# Altium integrated library Resistors.IntLib: 4954 symbols (part 29 of 32)
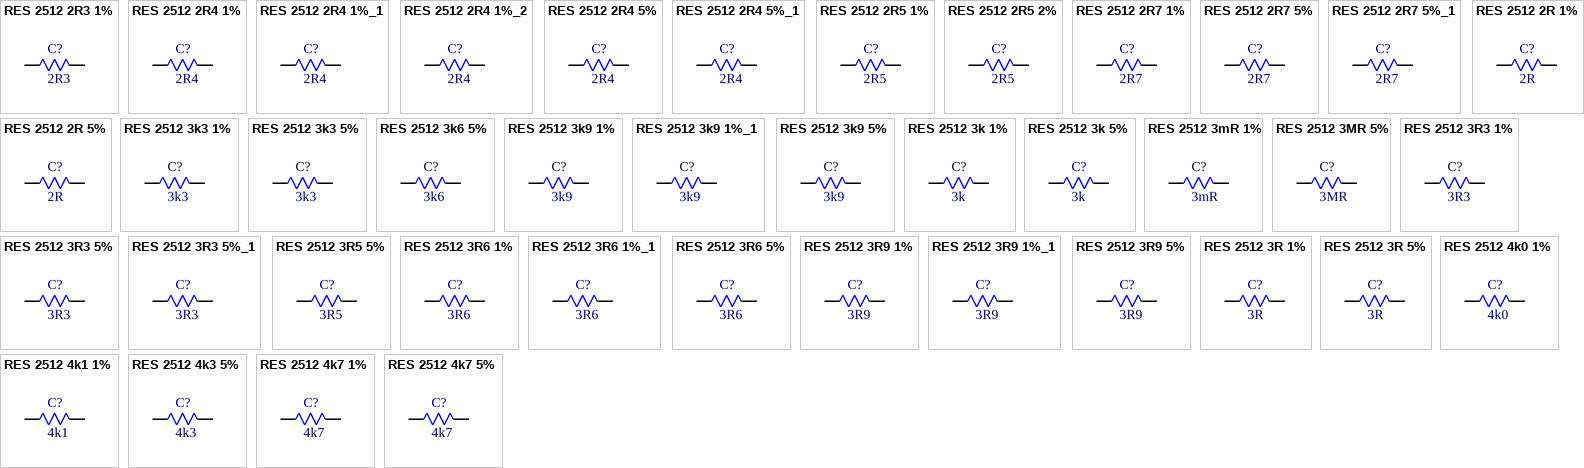
[diagram p151: symbols RES 2512 2R3 1% to RES 2512 4k7 5%]

## RES 2512 4k1 1%
designator C?, comment 4k1
4.12kR 1W 200V Thick Film Resistor 100ppm/â„ƒ 1% 2512 Chip Resistor - Surface Mount RoHS; Manufacturer: FOJAN; Manufacturer Part Number: FRC2512F4121TS; Supplier: LCSC; Supplier Part Number: C48533765; Resistance: 4k1; Tolerance: 1%; Voltage Rating: 200V; Power: 1W
footprint RES SMD 2512
pins: 1, 2

## RES 2512 4k3 5%
designator C?, comment 4k3
4.3kR 5% 1W 2512 Thick Film Resistor; Manufacturer: FOJAN; Manufacturer Part Number: FRC2512J432 TS; Voltage Rating: 200V; Supplier: LCSC; Supplier Part Number: C2934116; Resistance: 4k3; Tolerance: 5%; Power: 1W
footprint RES SMD 2512
pins: 1, 2

## RES 2512 4k7 1%
designator C?, comment 4k7
4.7kR 1% 1W 2512 Thick Film Resistor; Manufacturer: FOJAN; Manufacturer Part Number: FRC2512F4701TS; Voltage Rating: 200V; Supplier: LCSC; Supplier Part Number: C5189023; Resistance: 4k7; Tolerance: 1%; Power: 1W
footprint RES SMD 2512
pins: 1, 2

## RES 2512 4k7 5%
designator C?, comment 4k7
4.7kR 5% 1W 2512 Thick Film Resistor; Manufacturer: FOJAN; Manufacturer Part Number: FRC2512J472 TS; Voltage Rating: 200V; Supplier: LCSC; Supplier Part Number: C2907583; Resistance: 4k7; Tolerance: 5%; Power: 1W
footprint RES SMD 2512
pins: 1, 2

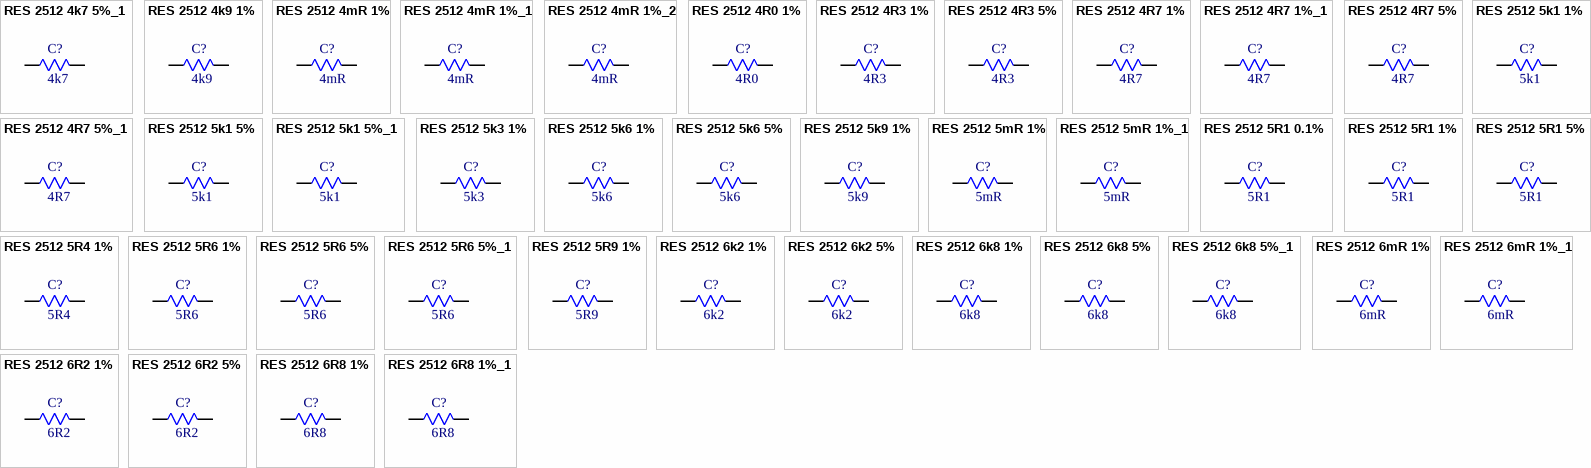
[diagram p112: symbols RES 2512 4k7 5%_1 to RES 2512 6R8 1%_1]

## RES 2512 4k7 5%_1
designator C?, comment 4k7
2W 4.7kR Thick Film Resistor 200ppm/â„ƒ 5% 2512 Chip Resistor - Surface Mount RoHS; Manufacturer: FOJAN; Manufacturer Part Number: FRP2512J472 TS; Supplier: LCSC; Supplier Part Number: C7468142; Resistance: 4k7; Tolerance: 5%; Power: 2W
footprint RES SMD 2512
pins: 1, 2

## RES 2512 4k9 1%
designator C?, comment 4k9
1W 4.99kR 200V Thick Film Resistor 100ppm/â„ƒ 1% 2512 Chip Resistor - Surface Mount RoHS; Manufacturer: FOJAN; Manufacturer Part Number: FRC2512F4991TS; Supplier: LCSC; Supplier Part Number: C48533753; Resistance: 4k9; Tolerance: 1%; Voltage Rating: 200V; Power: 1W
footprint RES SMD 2512
pins: 1, 2

## RES 2512 4mR 1%
designator C?, comment 4mR
2W 4mR Current Sense Resistor 50ppm/â„ƒ 1% 2512 Chip Resistor - Surface Mount RoHS; Manufacturer: FOJAN; Manufacturer Part Number: FRM252WFR004TN; Supplier: LCSC; Supplier Part Number: C7420003; Resistance: 4mR; Tolerance: 1%; Power: 2W
footprint RES SMD 2512
pins: 1, 2

## RES 2512 4mR 1%_1
designator C?, comment 4mR
4mR 3W Current Sense Resistor 50ppm/â„ƒ 1% 2512 Chip Resistor - Surface Mount RoHS; Manufacturer: FOJAN; Manufacturer Part Number: FPM253WFR004TML; Supplier: LCSC; Supplier Part Number: C7420018; Resistance: 4mR; Tolerance: 1%; Power: 3W
footprint RES SMD 2512
pins: 1, 2

## RES 2512 4mR 1%_2
designator C?, comment 4mR
4mR 3W 50ppm/â„ƒ 1% 2512 Chip Resistor - Surface Mount RoHS; Manufacturer: FOJAN; Manufacturer Part Number: FPM253WFR004TM; Supplier: LCSC; Supplier Part Number: C48533612; Resistance: 4mR; Tolerance: 1%; Power: 3W
footprint RES SMD 2512
pins: 1, 2

## RES 2512 4R0 1%
designator C?, comment 4R0
1W 4.02R 200V Thick Film Resistor 1% 2512 Chip Resistor - Surface Mount RoHS; Manufacturer: FOJAN; Manufacturer Part Number: FRC2512F4R02TS; Supplier: LCSC; Supplier Part Number: C51048307; Resistance: 4R0; Tolerance: 1%; Voltage Rating: 200V; Power: 1W
footprint RES SMD 2512
pins: 1, 2

## RES 2512 4R3 1%
designator C?, comment 4R3
1W 4.3R 200V Thick Film Resistor 1% 200ppm/â„ƒ 2512 Chip Resistor - Surface Mount RoHS; Manufacturer: FOJAN; Manufacturer Part Number: FRC2512F4R30TS; Supplier: LCSC; Supplier Part Number: C2960775; Resistance: 4R3; Tolerance: 1%; Voltage Rating: 200V; Power: 1W
footprint RES SMD 2512
pins: 1, 2

## RES 2512 4R3 5%
designator C?, comment 4R3
1W 4.3R 200V Thick Film Resistor 5% 200ppm/â„ƒ 2512 Chip Resistor - Surface Mount RoHS; Manufacturer: FOJAN; Manufacturer Part Number: FRC2512J4R3 TS; Supplier: LCSC; Supplier Part Number: C2960816; Resistance: 4R3; Tolerance: 5%; Voltage Rating: 200V; Power: 1W
footprint RES SMD 2512
pins: 1, 2

## RES 2512 4R7 1%
designator C?, comment 4R7
1W 4.7R 200V Thick Film Resistor 200ppm/â„ƒ 1% 2512 Chip Resistor - Surface Mount RoHS; Manufacturer: FOJAN; Manufacturer Part Number: FRC2512F4R70TS; Supplier: LCSC; Supplier Part Number: C2999606; Resistance: 4R7; Tolerance: 1%; Voltage Rating: 200V; Power: 1W
footprint RES SMD 2512
pins: 1, 2

## RES 2512 4R7 1%_1
designator C?, comment 4R7
4.7R 2W Thick Film Resistor 200ppm/â„ƒ 1% 2512 Chip Resistor - Surface Mount RoHS; Manufacturer: FOJAN; Manufacturer Part Number: FRP2512F4R70TS; Supplier: LCSC; Supplier Part Number: C7468231; Resistance: 4R7; Tolerance: 1%; Power: 2W
footprint RES SMD 2512
pins: 1, 2

## RES 2512 4R7 5%
designator C?, comment 4R7
1W 4.7R 200V Thick Film Resistor 5% 200ppm/â„ƒ 2512 Chip Resistor - Surface Mount RoHS; Manufacturer: FOJAN; Manufacturer Part Number: FRC2512J4R7 TS; Supplier: LCSC; Supplier Part Number: C2907584; Resistance: 4R7; Tolerance: 5%; Voltage Rating: 200V; Power: 1W
footprint RES SMD 2512
pins: 1, 2

## RES 2512 4R7 5%_1
designator C?, comment 4R7
4.7MR 5% 1W 2512 Thick Film Resistor; Manufacturer: FOJAN; Manufacturer Part Number: FRC2512J475TS; Voltage Rating: 200V; Supplier: LCSC; Supplier Part Number: C3000638; Resistance: 4R7; Tolerance: 5%; Power: 1W
footprint RES SMD 2512
pins: 1, 2

## RES 2512 5k1 1%
designator C?, comment 5k1
5.1kR 1% 1W 2512 Thick Film Resistor; Manufacturer: FOJAN; Manufacturer Part Number: FRC2512F5101TS; Voltage Rating: 200V; Supplier: LCSC; Supplier Part Number: C2960812; Resistance: 5k1; Tolerance: 1%; Power: 1W
footprint RES SMD 2512
pins: 1, 2

## RES 2512 5k1 5%
designator C?, comment 5k1
5.1kR 5% 1W 2512 Thick Film Resistor; Manufacturer: FOJAN; Manufacturer Part Number: FRC2512J512 TS; Voltage Rating: 200V; Supplier: LCSC; Supplier Part Number: C2934122; Resistance: 5k1; Tolerance: 5%; Power: 1W
footprint RES SMD 2512
pins: 1, 2

## RES 2512 5k1 5%_1
designator C?, comment 5k1
5.1kR 2W 200V Thick Film Resistor 5% 2512 Chip Resistor - Surface Mount RoHS; Manufacturer: FOJAN; Manufacturer Part Number: FRP2512J512 TS; Supplier: LCSC; Supplier Part Number: C52033540; Resistance: 5k1; Tolerance: 5%; Voltage Rating: 200V; Power: 2W
footprint RES SMD 2512
pins: 1, 2

## RES 2512 5k3 1%
designator C?, comment 5k3
1W 5.36kR 200V Thick Film Resistor 1% 2512 Chip Resistor - Surface Mount RoHS; Manufacturer: FOJAN; Manufacturer Part Number: FRC2512F5361TS; Supplier: LCSC; Supplier Part Number: C51048308; Resistance: 5k3; Tolerance: 1%; Voltage Rating: 200V; Power: 1W
footprint RES SMD 2512
pins: 1, 2

## RES 2512 5k6 1%
designator C?, comment 5k6
5.6kR 1% 1W 2512 Thick Film Resistor; Manufacturer: FOJAN; Manufacturer Part Number: FRC2512F5601TS; Voltage Rating: 200V; Supplier: LCSC; Supplier Part Number: C5154003; Resistance: 5k6; Tolerance: 1%; Power: 1W
footprint RES SMD 2512
pins: 1, 2

## RES 2512 5k6 5%
designator C?, comment 5k6
1W 5.6kR 200V Thick Film Resistor 100ppm/â„ƒ 5% 2512 Chip Resistor - Surface Mount RoHS; Manufacturer: FOJAN; Manufacturer Part Number: FRC2512J562TS; Supplier: LCSC; Supplier Part Number: C3000639; Resistance: 5k6; Tolerance: 5%; Voltage Rating: 200V; Power: 1W
footprint RES SMD 2512
pins: 1, 2

## RES 2512 5k9 1%
designator C?, comment 5k9
5.9kR 1W 200V Thick Film Resistor 100ppm/â„ƒ 1% 2512 Chip Resistor - Surface Mount RoHS; Manufacturer: FOJAN; Manufacturer Part Number: FRC2512F5901TS; Supplier: LCSC; Supplier Part Number: C48533748; Resistance: 5k9; Tolerance: 1%; Voltage Rating: 200V; Power: 1W
footprint RES SMD 2512
pins: 1, 2

## RES 2512 5mR 1%
designator C?, comment 5mR
5mR 3W Current Sense Resistor 50ppm/â„ƒ 1% 2512 Chip Resistor - Surface Mount RoHS; Manufacturer: FOJAN; Manufacturer Part Number: FPM253WFR005TM; Supplier: LCSC; Supplier Part Number: C7420019; Resistance: 5mR; Tolerance: 1%; Power: 3W
footprint RES SMD 2512
pins: 1, 2

## RES 2512 5mR 1%_1
designator C?, comment 5mR
2W 5mR Current Sense Resistor 50ppm/â„ƒ 1% 2512 Chip Resistor - Surface Mount RoHS; Manufacturer: FOJAN; Manufacturer Part Number: FRM252WFR005TN; Supplier: LCSC; Supplier Part Number: C7420004; Resistance: 5mR; Tolerance: 1%; Power: 2W
footprint RES SMD 2512
pins: 1, 2

## RES 2512 5R1 0.1%
designator C?, comment 5R1
1W 5.1R 200V Thick Film Resistor 200ppm/â„ƒ 0.1% 2512 Chip Resistor - Surface Mount RoHS; Manufacturer: FOJAN; Manufacturer Part Number: FRH2512B5R10TS; Supplier: LCSC; Supplier Part Number: C49196932; Resistance: 5R1; Tolerance: 0.1%; Voltage Rating: 200V; Power: 1W
footprint RES SMD 2512
pins: 1, 2

## RES 2512 5R1 1%
designator C?, comment 5R1
1W 5.1R 200V Thick Film Resistor 1% 200ppm/â„ƒ 2512 Chip Resistor - Surface Mount RoHS; Manufacturer: FOJAN; Manufacturer Part Number: FRC2512F5R10TS; Supplier: LCSC; Supplier Part Number: C2934079; Resistance: 5R1; Tolerance: 1%; Voltage Rating: 200V; Power: 1W
footprint RES SMD 2512
pins: 1, 2

## RES 2512 5R1 5%
designator C?, comment 5R1
1W 5.1R 200V Thick Film Resistor 200ppm/â„ƒ 5% 2512 Chip Resistor - Surface Mount RoHS; Manufacturer: FOJAN; Manufacturer Part Number: FRC2512J5R1TS; Supplier: LCSC; Supplier Part Number: C3000793; Resistance: 5R1; Tolerance: 5%; Voltage Rating: 200V; Power: 1W
footprint RES SMD 2512
pins: 1, 2

## RES 2512 5R4 1%
designator C?, comment 5R4
1W 5.49R 200V Thick Film Resistor 1% 2512 Chip Resistor - Surface Mount RoHS; Manufacturer: FOJAN; Manufacturer Part Number: FRC2512F5R49TS; Supplier: LCSC; Supplier Part Number: C51048314; Resistance: 5R4; Tolerance: 1%; Voltage Rating: 200V; Power: 1W
footprint RES SMD 2512
pins: 1, 2

## RES 2512 5R6 1%
designator C?, comment 5R6
1W 5.6R 200V Thick Film Resistor 200ppm/â„ƒ 1% 2512 Chip Resistor - Surface Mount RoHS; Manufacturer: FOJAN; Manufacturer Part Number: FRC2512F5R60TS; Supplier: LCSC; Supplier Part Number: C2999604; Resistance: 5R6; Tolerance: 1%; Voltage Rating: 200V; Power: 1W
footprint RES SMD 2512
pins: 1, 2

## RES 2512 5R6 5%
designator C?, comment 5R6
5.6R 2W Thick Film Resistor 200ppm/â„ƒ 5% 2512 Chip Resistor - Surface Mount RoHS; Manufacturer: FOJAN; Manufacturer Part Number: FRP2512J5R6 TS; Supplier: LCSC; Supplier Part Number: C7468151; Resistance: 5R6; Tolerance: 5%; Power: 2W
footprint RES SMD 2512
pins: 1, 2

## RES 2512 5R6 5%_1
designator C?, comment 5R6
1W 5.6R 200V Thick Film Resistor 200ppm/â„ƒ 5% 2512 Chip Resistor - Surface Mount RoHS; Manufacturer: FOJAN; Manufacturer Part Number: FRC2512J5R6TS; Supplier: LCSC; Supplier Part Number: C3000663; Resistance: 5R6; Tolerance: 5%; Voltage Rating: 200V; Power: 1W
footprint RES SMD 2512
pins: 1, 2

## RES 2512 5R9 1%
designator C?, comment 5R9
1W 5.9R 200V Thick Film Resistor 1% 2512 Chip Resistor - Surface Mount RoHS; Manufacturer: FOJAN; Manufacturer Part Number: FRC2512F5R90TS; Supplier: LCSC; Supplier Part Number: C51048249; Resistance: 5R9; Tolerance: 1%; Voltage Rating: 200V; Power: 1W
footprint RES SMD 2512
pins: 1, 2

## RES 2512 6k2 1%
designator C?, comment 6k2
6.2kR 1% 1W 2512 Thick Film Resistor; Manufacturer: FOJAN; Manufacturer Part Number: FRC2512F6201TS; Voltage Rating: 200V; Supplier: LCSC; Supplier Part Number: C5713380; Resistance: 6k2; Tolerance: 1%; Power: 1W
footprint RES SMD 2512
pins: 1, 2

## RES 2512 6k2 5%
designator C?, comment 6k2
6.2kR 5% 1W 2512 Thick Film Resistor; Manufacturer: FOJAN; Manufacturer Part Number: FRC2512J622 TS; Voltage Rating: 200V; Supplier: LCSC; Supplier Part Number: C2960756; Resistance: 6k2; Tolerance: 5%; Power: 1W
footprint RES SMD 2512
pins: 1, 2

## RES 2512 6k8 1%
designator C?, comment 6k8
1W 6.8kR 200V Thick Film Resistor 1% 100ppm/â„ƒ 2512 Chip Resistor - Surface Mount RoHS; Manufacturer: FOJAN; Manufacturer Part Number: FRC2512F6801TS; Supplier: LCSC; Supplier Part Number: C7467344; Resistance: 6k8; Tolerance: 1%; Voltage Rating: 200V; Power: 1W
footprint RES SMD 2512
pins: 1, 2

## RES 2512 6k8 5%
designator C?, comment 6k8
6.8kR 1W Thick Film Resistor 100ppm/â„ƒ 5% 2512 Chip Resistor - Surface Mount RoHS; Manufacturer: FOJAN; Manufacturer Part Number: FRS2512J682 TS; Supplier: LCSC; Supplier Part Number: C42372225; Resistance: 6k8; Tolerance: 5%; Power: 1W
footprint RES SMD 2512
pins: 1, 2

## RES 2512 6k8 5%_1
designator C?, comment 6k8
6.8kR 5% 1W 2512 Thick Film Resistor; Manufacturer: FOJAN; Manufacturer Part Number: FRC2512J682TS; Voltage Rating: 200V; Supplier: LCSC; Supplier Part Number: C3000668; Resistance: 6k8; Tolerance: 5%; Power: 1W
footprint RES SMD 2512
pins: 1, 2

## RES 2512 6mR 1%
designator C?, comment 6mR
6mR 1% 3W; Manufacturer: FOJAN; Manufacturer Part Number: FPM253WFR006TN; Supplier: LCSC; Supplier Part Number: C46635901; Resistance: 6mR; Tolerance: 1%; Power: 3W
footprint RES SMD 2512
pins: 1, 2

## RES 2512 6mR 1%_1
designator C?, comment 6mR
2W 6mR 50ppm/â„ƒ 1% 2512 Chip Resistor - Surface Mount RoHS; Manufacturer: FOJAN; Manufacturer Part Number: FRM252WFR006TM; Supplier: LCSC; Supplier Part Number: C48533611; Resistance: 6mR; Tolerance: 1%; Power: 2W
footprint RES SMD 2512
pins: 1, 2

## RES 2512 6R2 1%
designator C?, comment 6R2
1W 6.2R 200V Thick Film Resistor 200ppm/â„ƒ 1% 2512 Chip Resistor - Surface Mount RoHS; Manufacturer: FOJAN; Manufacturer Part Number: FRC2512F6R20TS; Supplier: LCSC; Supplier Part Number: C3000561; Resistance: 6R2; Tolerance: 1%; Voltage Rating: 200V; Power: 1W
footprint RES SMD 2512
pins: 1, 2

## RES 2512 6R2 5%
designator C?, comment 6R2
6.2R 1W 200V Thick Film Resistor 5% 200ppm/â„ƒ 2512 Chip Resistor - Surface Mount RoHS; Manufacturer: FOJAN; Manufacturer Part Number: FRC2512J6R2 TS; Supplier: LCSC; Supplier Part Number: C2934127; Resistance: 6R2; Tolerance: 5%; Voltage Rating: 200V; Power: 1W
footprint RES SMD 2512
pins: 1, 2

## RES 2512 6R8 1%
designator C?, comment 6R8
1W 6.8R 200V Thick Film Resistor 200ppm/â„ƒ 1% 2512 Chip Resistor - Surface Mount RoHS; Manufacturer: FOJAN; Manufacturer Part Number: FRC2512F6R80TS; Supplier: LCSC; Supplier Part Number: C5121567; Resistance: 6R8; Tolerance: 1%; Voltage Rating: 200V; Power: 1W
footprint RES SMD 2512
pins: 1, 2

## RES 2512 6R8 1%_1
designator C?, comment 6R8
2W 6.8R 200V Thick Film Resistor 200ppm/â„ƒ 1% 2512 Chip Resistor - Surface Mount RoHS; Manufacturer: FOJAN; Manufacturer Part Number: FRP2512F6R80TS; Supplier: LCSC; Supplier Part Number: C49196888; Resistance: 6R8; Tolerance: 1%; Voltage Rating: 200V; Power: 2W
footprint RES SMD 2512
pins: 1, 2

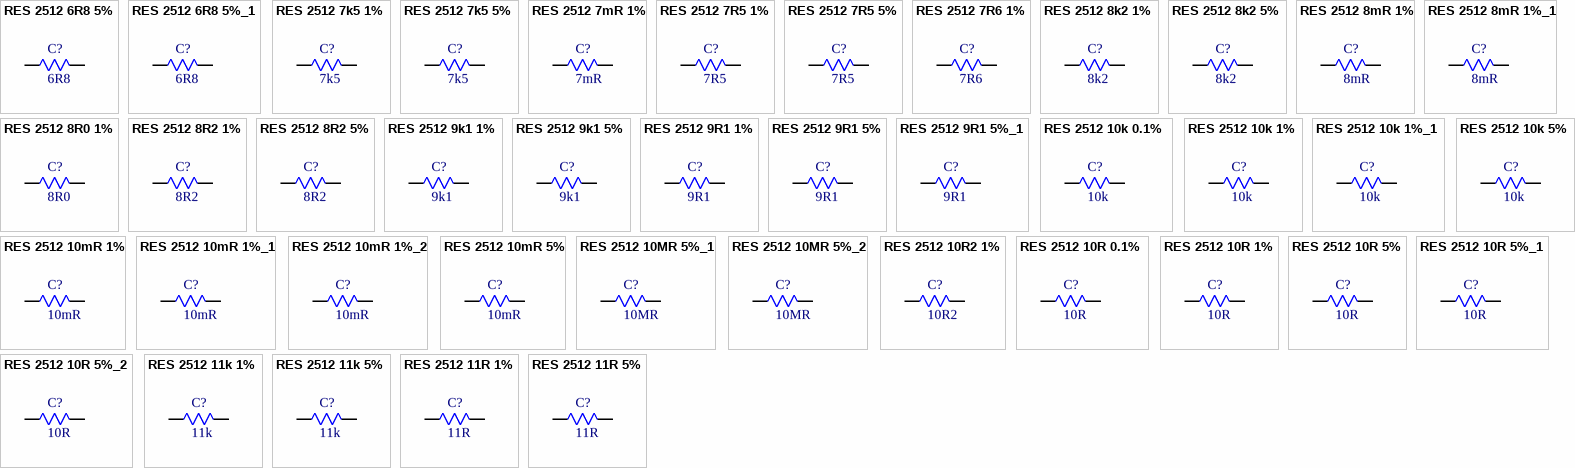
[diagram p113: symbols RES 2512 6R8 5% to RES 2512 11R 5%]

## RES 2512 6R8 5%
designator C?, comment 6R8
1W 6.8R 200V Thick Film Resistor 5% 200ppm/â„ƒ 2512 Chip Resistor - Surface Mount RoHS; Manufacturer: FOJAN; Manufacturer Part Number: FRC2512J6R8 TS; Supplier: LCSC; Supplier Part Number: C2960713; Resistance: 6R8; Tolerance: 5%; Voltage Rating: 200V; Power: 1W
footprint RES SMD 2512
pins: 1, 2

## RES 2512 6R8 5%_1
designator C?, comment 6R8
6.8R 2W Thick Film Resistor 200ppm/â„ƒ 5% 2512 Chip Resistor - Surface Mount RoHS; Manufacturer: FOJAN; Manufacturer Part Number: FRP2512J6R8 TS; Supplier: LCSC; Supplier Part Number: C7468160; Resistance: 6R8; Tolerance: 5%; Power: 2W
footprint RES SMD 2512
pins: 1, 2

## RES 2512 7k5 1%
designator C?, comment 7k5
7.5kR 1% 1W 2512 Thick Film Resistor; Manufacturer: FOJAN; Manufacturer Part Number: FRC2512F7501TS; Voltage Rating: 200V; Supplier: LCSC; Supplier Part Number: C5154004; Resistance: 7k5; Tolerance: 1%; Power: 1W
footprint RES SMD 2512
pins: 1, 2

## RES 2512 7k5 5%
designator C?, comment 7k5
7.5kR 5% 1W 2512 Thick Film Resistor; Manufacturer: FOJAN; Manufacturer Part Number: FRC2512J752 TS; Voltage Rating: 200V; Supplier: LCSC; Supplier Part Number: C2934129; Resistance: 7k5; Tolerance: 5%; Power: 1W
footprint RES SMD 2512
pins: 1, 2

## RES 2512 7mR 1%
designator C?, comment 7mR
7mR 1% 3W; Manufacturer: FOJAN; Manufacturer Part Number: FPM253WFR007TN; Supplier: LCSC; Supplier Part Number: C46635911; Resistance: 7mR; Tolerance: 1%; Power: 3W
footprint RES SMD 2512
pins: 1, 2

## RES 2512 7R5 1%
designator C?, comment 7R5
1W 7.5R 200V Thick Film Resistor 1% 200ppm/â„ƒ 2512 Chip Resistor - Surface Mount RoHS; Manufacturer: FOJAN; Manufacturer Part Number: FRC2512F7R50TS; Supplier: LCSC; Supplier Part Number: C2960814; Resistance: 7R5; Tolerance: 1%; Voltage Rating: 200V; Power: 1W
footprint RES SMD 2512
pins: 1, 2

## RES 2512 7R5 5%
designator C?, comment 7R5
1W 7.5R 200V Thick Film Resistor 5% 200ppm/â„ƒ 2512 Chip Resistor - Surface Mount RoHS; Manufacturer: FOJAN; Manufacturer Part Number: FRC2512J7R5 TS; Supplier: LCSC; Supplier Part Number: C2960779; Resistance: 7R5; Tolerance: 5%; Voltage Rating: 200V; Power: 1W
footprint RES SMD 2512
pins: 1, 2

## RES 2512 7R6 1%
designator C?, comment 7R6
1W 7.68R 200V Thick Film Resistor 1% 2512 Chip Resistor - Surface Mount RoHS; Manufacturer: FOJAN; Manufacturer Part Number: FRC2512F7R68TS; Supplier: LCSC; Supplier Part Number: C51048321; Resistance: 7R6; Tolerance: 1%; Voltage Rating: 200V; Power: 1W
footprint RES SMD 2512
pins: 1, 2

## RES 2512 8k2 1%
designator C?, comment 8k2
1W 8.2kR 200V Thick Film Resistor 1% 100ppm/â„ƒ 2512 Chip Resistor - Surface Mount RoHS; Manufacturer: FOJAN; Manufacturer Part Number: FRC2512F8201TS; Supplier: LCSC; Supplier Part Number: C7467346; Resistance: 8k2; Tolerance: 1%; Voltage Rating: 200V; Power: 1W
footprint RES SMD 2512
pins: 1, 2

## RES 2512 8k2 5%
designator C?, comment 8k2
8.2kR 5% 1W 2512 Thick Film Resistor; Manufacturer: FOJAN; Manufacturer Part Number: FRC2512J822 TS; Voltage Rating: 200V; Supplier: LCSC; Supplier Part Number: C2960759; Resistance: 8k2; Tolerance: 5%; Power: 1W
footprint RES SMD 2512
pins: 1, 2

## RES 2512 8mR 1%
designator C?, comment 8mR
8mR 2W Current Sense Resistor 50ppm/â„ƒ 1% 2512 Chip Resistor - Surface Mount RoHS; Manufacturer: FOJAN; Manufacturer Part Number: FRM252WFR008TN; Supplier: LCSC; Supplier Part Number: C7420005; Resistance: 8mR; Tolerance: 1%; Power: 2W
footprint RES SMD 2512
pins: 1, 2

## RES 2512 8mR 1%_1
designator C?, comment 8mR
8mR 1% 3W; Manufacturer: FOJAN; Manufacturer Part Number: FPM253WFR008TN; Supplier: LCSC; Supplier Part Number: C46635907; Resistance: 8mR; Tolerance: 1%; Power: 3W
footprint RES SMD 2512
pins: 1, 2

## RES 2512 8R0 1%
designator C?, comment 8R0
1W 8.06R 200V Thick Film Resistor 1% 2512 Chip Resistor - Surface Mount RoHS; Manufacturer: FOJAN; Manufacturer Part Number: FRC2512F8R06TS; Supplier: LCSC; Supplier Part Number: C52033525; Resistance: 8R0; Tolerance: 1%; Voltage Rating: 200V; Power: 1W
footprint RES SMD 2512
pins: 1, 2

## RES 2512 8R2 1%
designator C?, comment 8R2
1W 8.2R 200V Thick Film Resistor 200ppm/â„ƒ 1% 2512 Chip Resistor - Surface Mount RoHS; Manufacturer: FOJAN; Manufacturer Part Number: FRC2512F8R20TS; Supplier: LCSC; Supplier Part Number: C3013325; Resistance: 8R2; Tolerance: 1%; Voltage Rating: 200V; Power: 1W
footprint RES SMD 2512
pins: 1, 2

## RES 2512 8R2 5%
designator C?, comment 8R2
8.2R 1W 200V Thick Film Resistor 5% 200ppm/â„ƒ 2512 Chip Resistor - Surface Mount RoHS; Manufacturer: FOJAN; Manufacturer Part Number: FRC2512J8R2 TS; Supplier: LCSC; Supplier Part Number: C2960686; Resistance: 8R2; Tolerance: 5%; Voltage Rating: 200V; Power: 1W
footprint RES SMD 2512
pins: 1, 2

## RES 2512 9k1 1%
designator C?, comment 9k1
9.1kR 1% 1W 2512 Thick Film Resistor; Manufacturer: FOJAN; Manufacturer Part Number: FRC2512F9101TS; Voltage Rating: 200V; Supplier: LCSC; Supplier Part Number: C2960819; Resistance: 9k1; Tolerance: 1%; Power: 1W
footprint RES SMD 2512
pins: 1, 2

## RES 2512 9k1 5%
designator C?, comment 9k1
9.1kR 5% 1W 2512 Thick Film Resistor; Manufacturer: FOJAN; Manufacturer Part Number: FRC2512J912TS; Voltage Rating: 200V; Supplier: LCSC; Supplier Part Number: C3000640; Resistance: 9k1; Tolerance: 5%; Power: 1W
footprint RES SMD 2512
pins: 1, 2

## RES 2512 9R1 1%
designator C?, comment 9R1
1W 9.1R 200V Thick Film Resistor 200ppm/â„ƒ 1% 2512 Chip Resistor - Surface Mount RoHS; Manufacturer: FOJAN; Manufacturer Part Number: FRC2512F9R10TS; Supplier: LCSC; Supplier Part Number: C2999542; Resistance: 9R1; Tolerance: 1%; Voltage Rating: 200V; Power: 1W
footprint RES SMD 2512
pins: 1, 2

## RES 2512 9R1 5%
designator C?, comment 9R1
9.1R 2W 200V Thick Film Resistor 5% 2512 Chip Resistor - Surface Mount RoHS; Manufacturer: FOJAN; Manufacturer Part Number: FRP2512J9R1 TS; Supplier: LCSC; Supplier Part Number: C51048293; Resistance: 9R1; Tolerance: 5%; Voltage Rating: 200V; Power: 2W
footprint RES SMD 2512
pins: 1, 2

## RES 2512 9R1 5%_1
designator C?, comment 9R1
1W 9.1R 200V Thick Film Resistor 200ppm/â„ƒ 5% 2512 Chip Resistor - Surface Mount RoHS; Manufacturer: FOJAN; Manufacturer Part Number: FRC2512J9R1TS; Supplier: LCSC; Supplier Part Number: C3000794; Resistance: 9R1; Tolerance: 5%; Voltage Rating: 200V; Power: 1W
footprint RES SMD 2512
pins: 1, 2

## RES 2512 10k 0.1%
designator C?, comment 10k
1W 10kR 200V Thick Film Resistor 100ppm/â„ƒ 0.1% 2512 Chip Resistor - Surface Mount RoHS; Manufacturer: FOJAN; Manufacturer Part Number: FRH2512B1002TS; Supplier: LCSC; Supplier Part Number: C49196672; Resistance: 10k; Tolerance: 0.1%; Voltage Rating: 200V; Power: 1W
footprint RES SMD 2512
pins: 1, 2

## RES 2512 10k 1%
designator C?, comment 10k
10kR 2W 200V Thick Film Resistor 1% 2512 Chip Resistor - Surface Mount RoHS; Manufacturer: FOJAN; Manufacturer Part Number: FRP2512F1002TS; Supplier: LCSC; Supplier Part Number: C52033501; Resistance: 10k; Tolerance: 1%; Voltage Rating: 200V; Power: 2W
footprint RES SMD 2512
pins: 1, 2

## RES 2512 10k 1%_1
designator C?, comment 10k
10kR 1% 1W 2512 Thick Film Resistor; Manufacturer: FOJAN; Manufacturer Part Number: FRC2512F1002TS; Voltage Rating: 200V; Supplier: LCSC; Supplier Part Number: C2934044; Resistance: 10k; Tolerance: 1%; Power: 1W
footprint RES SMD 2512
pins: 1, 2

## RES 2512 10k 5%
designator C?, comment 10k
10kR 5% 1W 2512 Thick Film Resistor; Manufacturer: FOJAN; Manufacturer Part Number: FRC2512J103 TS; Voltage Rating: 200V; Supplier: LCSC; Supplier Part Number: C2974112; Resistance: 10k; Tolerance: 5%; Power: 1W
footprint RES SMD 2512
pins: 1, 2

## RES 2512 10mR 1%
designator C?, comment 10mR
1W 10mR Thick Film Resistor 1% 2512 Chip Resistor - Surface Mount RoHS; Manufacturer: FOJAN; Manufacturer Part Number: FRL2512FR010TS; Supplier: LCSC; Supplier Part Number: C7467306; Resistance: 10mR; Tolerance: 1%; Power: 1W
footprint RES SMD 2512
pins: 1, 2

## RES 2512 10mR 1%_1
designator C?, comment 10mR
10mR 3W Current Sense Resistor 50ppm/â„ƒ 1% 2512 Chip Resistor - Surface Mount RoHS; Manufacturer: FOJAN; Manufacturer Part Number: FPM253WFR010TM; Supplier: LCSC; Supplier Part Number: C7420020; Resistance: 10mR; Tolerance: 1%; Power: 3W
footprint RES SMD 2512
pins: 1, 2

## RES 2512 10mR 1%_2
designator C?, comment 10mR
10mR 2W Current Sense Resistor 50ppm/â„ƒ 1% 2512 Chip Resistor - Surface Mount RoHS; Manufacturer: FOJAN; Manufacturer Part Number: FRM252WFR010TN; Supplier: LCSC; Supplier Part Number: C7419995; Resistance: 10mR; Tolerance: 1%; Power: 2W
footprint RES SMD 2512
pins: 1, 2

## RES 2512 10mR 5%
designator C?, comment 10mR
1W 10mR Thick Film Resistor 5% 2512 Chip Resistor - Surface Mount RoHS; Manufacturer: FOJAN; Manufacturer Part Number: FRL2512JR010TS; Supplier: LCSC; Supplier Part Number: C7467488; Resistance: 10mR; Tolerance: 5%; Power: 1W
footprint RES SMD 2512
pins: 1, 2

## RES 2512 10MR 5%_1
designator C?, comment 10MR
10MR 5% 1W 2512 Thick Film Resistor; Manufacturer: FOJAN; Manufacturer Part Number: FRC2512J106 TS; Voltage Rating: 200V; Supplier: LCSC; Supplier Part Number: C2934081; Resistance: 10MR; Tolerance: 5%; Power: 1W
footprint RES SMD 2512
pins: 1, 2

## RES 2512 10MR 5%_2
designator C?, comment 10MR
10MR 5% 1W 2512 Thick Film Resistor; Manufacturer: FOJAN; Manufacturer Part Number: FRG2512J106TS; Voltage Rating: 200V; Supplier: LCSC; Supplier Part Number: C3000710; Resistance: 10MR; Tolerance: 5%; Power: 1W
footprint RES SMD 2512
pins: 1, 2

## RES 2512 10R2 1%
designator C?, comment 10R2
1W 10.2R 200V Thick Film Resistor 1% 2512 Chip Resistor - Surface Mount RoHS; Manufacturer: FOJAN; Manufacturer Part Number: FRC2512F10R2TS; Supplier: LCSC; Supplier Part Number: C51048195; Resistance: 10R2; Tolerance: 1%; Voltage Rating: 200V; Power: 1W
footprint RES SMD 2512
pins: 1, 2

## RES 2512 10R 0.1%
designator C?, comment 10R
1W 10R 200V Thick Film Resistor 200ppm/â„ƒ 0.1% 2512 Chip Resistor - Surface Mount RoHS; Manufacturer: FOJAN; Manufacturer Part Number: FRH2512B10R0TS; Supplier: LCSC; Supplier Part Number: C49010150; Resistance: 10R; Tolerance: 0.1%; Voltage Rating: 200V; Power: 1W
footprint RES SMD 2512
pins: 1, 2

## RES 2512 10R 1%
designator C?, comment 10R
10R 1W 200V Thick Film Resistor 200ppm/â„ƒ 1% 2512 Chip Resistor - Surface Mount RoHS; Manufacturer: FOJAN; Manufacturer Part Number: FRC2512F10R0TS; Supplier: LCSC; Supplier Part Number: C2934046; Resistance: 10R; Tolerance: 1%; Voltage Rating: 200V; Power: 1W
footprint RES SMD 2512
pins: 1, 2

## RES 2512 10R 5%
designator C?, comment 10R
2W 10R 200V Thick Film Resistor 200ppm/â„ƒ 5% 2512 Chip Resistor - Surface Mount RoHS; Manufacturer: FOJAN; Manufacturer Part Number: FRP2512J100 TS; Supplier: LCSC; Supplier Part Number: C3013385; Resistance: 10R; Tolerance: 5%; Voltage Rating: 200V; Power: 2W
footprint RES SMD 2512
pins: 1, 2

## RES 2512 10R 5%_1
designator C?, comment 10R
10R 1W 200V Thick Film Resistor 100ppm/â„ƒ 5% 2512 Chip Resistor - Surface Mount RoHS; Manufacturer: FOJAN; Manufacturer Part Number: FRC2512J100 TS; Supplier: LCSC; Supplier Part Number: C2907570; Resistance: 10R; Tolerance: 5%; Voltage Rating: 200V; Power: 1W
footprint RES SMD 2512
pins: 1, 2

## RES 2512 10R 5%_2
designator C?, comment 10R
10R 1W 200V Thick Film Resistor 5% 200ppm/â„ƒ 2512 Chip Resistor - Surface Mount RoHS; Manufacturer: FOJAN; Manufacturer Part Number: FRQ2512J100 TS; Supplier: LCSC; Supplier Part Number: C48533726; Resistance: 10R; Tolerance: 5%; Voltage Rating: 200V; Power: 1W
footprint RES SMD 2512
pins: 1, 2

## RES 2512 11k 1%
designator C?, comment 11k
11kR 1% 1W 2512 Thick Film Resistor; Manufacturer: FOJAN; Manufacturer Part Number: FRC2512F1102TS; Voltage Rating: 200V; Supplier: LCSC; Supplier Part Number: C3000598; Resistance: 11k; Tolerance: 1%; Power: 1W
footprint RES SMD 2512
pins: 1, 2

## RES 2512 11k 5%
designator C?, comment 11k
11kR 5% 1W 2512 Thick Film Resistor; Manufacturer: FOJAN; Manufacturer Part Number: FRC2512J113 TS; Voltage Rating: 200V; Supplier: LCSC; Supplier Part Number: C5447249; Resistance: 11k; Tolerance: 5%; Power: 1W
footprint RES SMD 2512
pins: 1, 2

## RES 2512 11R 1%
designator C?, comment 11R
2W 11R Thick Film Resistor 200ppm/â„ƒ 1% 2512 Chip Resistor - Surface Mount RoHS; Manufacturer: FOJAN; Manufacturer Part Number: FRP2512F11R0TS; Supplier: LCSC; Supplier Part Number: C7468192; Resistance: 11R; Tolerance: 1%; Power: 2W
footprint RES SMD 2512
pins: 1, 2

## RES 2512 11R 5%
designator C?, comment 11R
1W 11R 200V Thick Film Resistor 100ppm/â„ƒ 5% 2512 Chip Resistor - Surface Mount RoHS; Manufacturer: FOJAN; Manufacturer Part Number: FRC2512J110 TS; Supplier: LCSC; Supplier Part Number: C5121569; Resistance: 11R; Tolerance: 5%; Voltage Rating: 200V; Power: 1W
footprint RES SMD 2512
pins: 1, 2

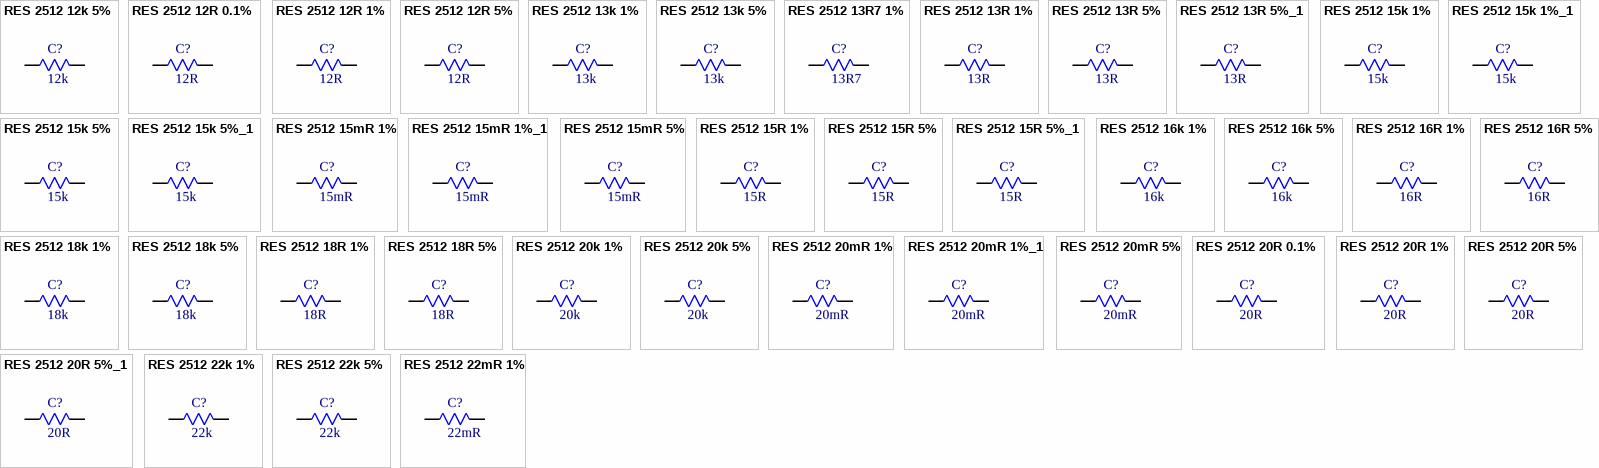
[diagram p114: symbols RES 2512 12k 5% to RES 2512 22mR 1%]

## RES 2512 12k 5%
designator C?, comment 12k
12kR 5% 1W 2512 Thick Film Resistor; Manufacturer: FOJAN; Manufacturer Part Number: FRC2512J123 TS; Voltage Rating: 200V; Supplier: LCSC; Supplier Part Number: C2934086; Resistance: 12k; Tolerance: 5%; Power: 1W
footprint RES SMD 2512
pins: 1, 2

## RES 2512 12R 0.1%
designator C?, comment 12R
12R 1W 200V Thick Film Resistor 100ppm/â„ƒ 0.1% 2512 Chip Resistor - Surface Mount RoHS; Manufacturer: FOJAN; Manufacturer Part Number: FRH2512B12R0TS; Supplier: LCSC; Supplier Part Number: C49196688; Resistance: 12R; Tolerance: 0.1%; Voltage Rating: 200V; Power: 1W
footprint RES SMD 2512
pins: 1, 2

## RES 2512 12R 1%
designator C?, comment 12R
1W 12R 200V Thick Film Resistor 100ppm/â„ƒ 1% 2512 Chip Resistor - Surface Mount RoHS; Manufacturer: FOJAN; Manufacturer Part Number: FRC2512F12R0TS; Supplier: LCSC; Supplier Part Number: C2974108; Resistance: 12R; Tolerance: 1%; Voltage Rating: 200V; Power: 1W
footprint RES SMD 2512
pins: 1, 2

## RES 2512 12R 5%
designator C?, comment 12R
1W 12R 200V Thick Film Resistor 100ppm/â„ƒ 5% 2512 Chip Resistor - Surface Mount RoHS; Manufacturer: FOJAN; Manufacturer Part Number: FRC2512J120 TS; Supplier: LCSC; Supplier Part Number: C2934084; Resistance: 12R; Tolerance: 5%; Voltage Rating: 200V; Power: 1W
footprint RES SMD 2512
pins: 1, 2

## RES 2512 13k 1%
designator C?, comment 13k
2W 13kR 200V Thick Film Resistor 200ppm/â„ƒ 1% 2512 Chip Resistor - Surface Mount RoHS; Manufacturer: FOJAN; Manufacturer Part Number: FRP2512F1302TS; Supplier: LCSC; Supplier Part Number: C49196882; Resistance: 13k; Tolerance: 1%; Voltage Rating: 200V; Power: 2W
footprint RES SMD 2512
pins: 1, 2

## RES 2512 13k 5%
designator C?, comment 13k
13kR 5% 1W 2512 Thick Film Resistor; Manufacturer: FOJAN; Manufacturer Part Number: FRC2512J133TS; Voltage Rating: 200V; Supplier: LCSC; Supplier Part Number: C5154012; Resistance: 13k; Tolerance: 5%; Power: 1W
footprint RES SMD 2512
pins: 1, 2

## RES 2512 13R7 1%
designator C?, comment 13R7
1W 13.7R 200V Thick Film Resistor 1% 2512 Chip Resistor - Surface Mount RoHS; Manufacturer: FOJAN; Manufacturer Part Number: FRC2512F13R7TS; Supplier: LCSC; Supplier Part Number: C51048305; Resistance: 13R7; Tolerance: 1%; Voltage Rating: 200V; Power: 1W
footprint RES SMD 2512
pins: 1, 2

## RES 2512 13R 1%
designator C?, comment 13R
13R 1W 200V Thick Film Resistor 100ppm/â„ƒ 1% 2512 Chip Resistor - Surface Mount RoHS; Manufacturer: FOJAN; Manufacturer Part Number: FRC2512F13R0TS; Supplier: LCSC; Supplier Part Number: C2974109; Resistance: 13R; Tolerance: 1%; Voltage Rating: 200V; Power: 1W
footprint RES SMD 2512
pins: 1, 2

## RES 2512 13R 5%
designator C?, comment 13R
2W 13R 200V Thick Film Resistor 200ppm/â„ƒ 5% 2512 Chip Resistor - Surface Mount RoHS; Manufacturer: FOJAN; Manufacturer Part Number: FRP2512J130 TS; Supplier: LCSC; Supplier Part Number: C3013386; Resistance: 13R; Tolerance: 5%; Voltage Rating: 200V; Power: 2W
footprint RES SMD 2512
pins: 1, 2

## RES 2512 13R 5%_1
designator C?, comment 13R
13R 1W 200V Thick Film Resistor 100ppm/â„ƒ 5% 2512 Chip Resistor - Surface Mount RoHS; Manufacturer: FOJAN; Manufacturer Part Number: FRC2512J130 TS; Supplier: LCSC; Supplier Part Number: C2934088; Resistance: 13R; Tolerance: 5%; Voltage Rating: 200V; Power: 1W
footprint RES SMD 2512
pins: 1, 2

## RES 2512 15k 1%
designator C?, comment 15k
2W 15kR 200V Thick Film Resistor 200ppm/â„ƒ 1% 2512 Chip Resistor - Surface Mount RoHS; Manufacturer: FOJAN; Manufacturer Part Number: FRP2512F1502TS; Supplier: LCSC; Supplier Part Number: C49196880; Resistance: 15k; Tolerance: 1%; Voltage Rating: 200V; Power: 2W
footprint RES SMD 2512
pins: 1, 2

## RES 2512 15k 1%_1
designator C?, comment 15k
1W 15kR 200V Thick Film Resistor 1% 2512 Chip Resistor - Surface Mount RoHS; Manufacturer: FOJAN; Manufacturer Part Number: FRC2512F1502TS; Supplier: LCSC; Supplier Part Number: C51048336; Resistance: 15k; Tolerance: 1%; Voltage Rating: 200V; Power: 1W
footprint RES SMD 2512
pins: 1, 2

## RES 2512 15k 5%
designator C?, comment 15k
15kR 5% 1W 2512 Thick Film Resistor; Manufacturer: FOJAN; Manufacturer Part Number: FRC2512J153 TS; Voltage Rating: 200V; Supplier: LCSC; Supplier Part Number: C3013327; Resistance: 15k; Tolerance: 5%; Power: 1W
footprint RES SMD 2512
pins: 1, 2

## RES 2512 15k 5%_1
designator C?, comment 15k
15kR 1W Thick Film Resistor 100ppm/â„ƒ 5% 2512 Chip Resistor - Surface Mount RoHS; Manufacturer: FOJAN; Manufacturer Part Number: FRS2512J153 TS; Supplier: LCSC; Supplier Part Number: C42372223; Resistance: 15k; Tolerance: 5%; Power: 1W
footprint RES SMD 2512
pins: 1, 2

## RES 2512 15mR 1%
designator C?, comment 15mR
2W 15mR 50ppm/â„ƒ 1% 2512 Chip Resistor - Surface Mount RoHS; Manufacturer: FOJAN; Manufacturer Part Number: FRM252WFR015TN; Supplier: LCSC; Supplier Part Number: C48533610; Resistance: 15mR; Tolerance: 1%; Power: 2W
footprint RES SMD 2512
pins: 1, 2

## RES 2512 15mR 1%_1
designator C?, comment 15mR
15mR 1% 3W; Manufacturer: FOJAN; Manufacturer Part Number: FPM253WFR015TN; Supplier: LCSC; Supplier Part Number: C46635904; Resistance: 15mR; Tolerance: 1%; Power: 3W
footprint RES SMD 2512
pins: 1, 2

## RES 2512 15mR 5%
designator C?, comment 15mR
1W 15mR Thick Film Resistor 5% 2512 Chip Resistor - Surface Mount RoHS; Manufacturer: FOJAN; Manufacturer Part Number: FRL2512JR015TS; Supplier: LCSC; Supplier Part Number: C7467487; Resistance: 15mR; Tolerance: 5%; Power: 1W
footprint RES SMD 2512
pins: 1, 2

## RES 2512 15R 1%
designator C?, comment 15R
1W 15R 200V Thick Film Resistor 100ppm/â„ƒ 1% 2512 Chip Resistor - Surface Mount RoHS; Manufacturer: FOJAN; Manufacturer Part Number: FRC2512F15R0TS; Supplier: LCSC; Supplier Part Number: C2934051; Resistance: 15R; Tolerance: 1%; Voltage Rating: 200V; Power: 1W
footprint RES SMD 2512
pins: 1, 2

## RES 2512 15R 5%
designator C?, comment 15R
15R 2W 200V Thick Film Resistor 5% 200ppm/â„ƒ 2512 Chip Resistor - Surface Mount RoHS; Manufacturer: FOJAN; Manufacturer Part Number: FRP2512J150 TS; Supplier: LCSC; Supplier Part Number: C5713426; Resistance: 15R; Tolerance: 5%; Voltage Rating: 200V; Power: 2W
footprint RES SMD 2512
pins: 1, 2

## RES 2512 15R 5%_1
designator C?, comment 15R
1W 15R 200V Thick Film Resistor 100ppm/â„ƒ 5% 2512 Chip Resistor - Surface Mount RoHS; Manufacturer: FOJAN; Manufacturer Part Number: FRC2512J150 TS; Supplier: LCSC; Supplier Part Number: C2907572; Resistance: 15R; Tolerance: 5%; Voltage Rating: 200V; Power: 1W
footprint RES SMD 2512
pins: 1, 2

## RES 2512 16k 1%
designator C?, comment 16k
2W 16kR 200V Thick Film Resistor 200ppm/â„ƒ 1% 2512 Chip Resistor - Surface Mount RoHS; Manufacturer: FOJAN; Manufacturer Part Number: FRP2512F1602TS; Supplier: LCSC; Supplier Part Number: C49196879; Resistance: 16k; Tolerance: 1%; Voltage Rating: 200V; Power: 2W
footprint RES SMD 2512
pins: 1, 2

## RES 2512 16k 5%
designator C?, comment 16k
16kR 5% 1W 2512 Thick Film Resistor; Manufacturer: FOJAN; Manufacturer Part Number: FRC2512J163TS; Voltage Rating: 200V; Supplier: LCSC; Supplier Part Number: C5379851; Resistance: 16k; Tolerance: 5%; Power: 1W
footprint RES SMD 2512
pins: 1, 2

## RES 2512 16R 1%
designator C?, comment 16R
1W 16R 200V Thick Film Resistor 100ppm/â„ƒ 1% 2512 Chip Resistor - Surface Mount RoHS; Manufacturer: FOJAN; Manufacturer Part Number: FRC2512F16R0TS; Supplier: LCSC; Supplier Part Number: C5126173; Resistance: 16R; Tolerance: 1%; Voltage Rating: 200V; Power: 1W
footprint RES SMD 2512
pins: 1, 2

## RES 2512 16R 5%
designator C?, comment 16R
1W 16R 200V Thick Film Resistor 100ppm/â„ƒ 5% 2512 Chip Resistor - Surface Mount RoHS; Manufacturer: FOJAN; Manufacturer Part Number: FRC2512J160TS; Supplier: LCSC; Supplier Part Number: C5357159; Resistance: 16R; Tolerance: 5%; Voltage Rating: 200V; Power: 1W
footprint RES SMD 2512
pins: 1, 2

## RES 2512 18k 1%
designator C?, comment 18k
1W 18kR 200V Thick Film Resistor 1% 100ppm/â„ƒ 2512 Chip Resistor - Surface Mount RoHS; Manufacturer: FOJAN; Manufacturer Part Number: FRC2512F1802TS; Supplier: LCSC; Supplier Part Number: C7467477; Resistance: 18k; Tolerance: 1%; Voltage Rating: 200V; Power: 1W
footprint RES SMD 2512
pins: 1, 2

## RES 2512 18k 5%
designator C?, comment 18k
18kR 5% 1W 2512 Thick Film Resistor; Manufacturer: FOJAN; Manufacturer Part Number: FRC2512J183 TS; Voltage Rating: 200V; Supplier: LCSC; Supplier Part Number: C2960675; Resistance: 18k; Tolerance: 5%; Power: 1W
footprint RES SMD 2512
pins: 1, 2

## RES 2512 18R 1%
designator C?, comment 18R
1W 18R 200V Thick Film Resistor 100ppm/â„ƒ 1% 2512 Chip Resistor - Surface Mount RoHS; Manufacturer: FOJAN; Manufacturer Part Number: FRC2512F18R0TS; Supplier: LCSC; Supplier Part Number: C2934052; Resistance: 18R; Tolerance: 1%; Voltage Rating: 200V; Power: 1W
footprint RES SMD 2512
pins: 1, 2

## RES 2512 18R 5%
designator C?, comment 18R
1W 18R 200V Thick Film Resistor 100ppm/â„ƒ 5% 2512 Chip Resistor - Surface Mount RoHS; Manufacturer: FOJAN; Manufacturer Part Number: FRC2512J180 TS; Supplier: LCSC; Supplier Part Number: C2934093; Resistance: 18R; Tolerance: 5%; Voltage Rating: 200V; Power: 1W
footprint RES SMD 2512
pins: 1, 2

## RES 2512 20k 1%
designator C?, comment 20k
20kR 1% 1W 2512 Thick Film Resistor; Manufacturer: FOJAN; Manufacturer Part Number: FRC2512F2002TS; Voltage Rating: 200V; Supplier: LCSC; Supplier Part Number: C2934058; Resistance: 20k; Tolerance: 1%; Power: 1W
footprint RES SMD 2512
pins: 1, 2

## RES 2512 20k 5%
designator C?, comment 20k
20kR 5% 1W 2512 Thick Film Resistor; Manufacturer: FOJAN; Manufacturer Part Number: FRC2512J203 TS; Voltage Rating: 200V; Supplier: LCSC; Supplier Part Number: C2934096; Resistance: 20k; Tolerance: 5%; Power: 1W
footprint RES SMD 2512
pins: 1, 2

## RES 2512 20mR 1%
designator C?, comment 20mR
20mR 1% 3W; Manufacturer: FOJAN; Manufacturer Part Number: FPM253WFR020TN; Supplier: LCSC; Supplier Part Number: C46635897; Resistance: 20mR; Tolerance: 1%; Power: 3W
footprint RES SMD 2512
pins: 1, 2

## RES 2512 20mR 1%_1
designator C?, comment 20mR
1W 20mR Thick Film Resistor 1200ppm/â„ƒ 1% 2512 Chip Resistor - Surface Mount RoHS; Manufacturer: FOJAN; Manufacturer Part Number: FRL2512FR020TS; Supplier: LCSC; Supplier Part Number: C7467535; Resistance: 20mR; Tolerance: 1%; Power: 1W
footprint RES SMD 2512
pins: 1, 2

## RES 2512 20mR 5%
designator C?, comment 20mR
1W 20mR Thick Film Resistor 1200ppm/â„ƒ 5% 2512 Chip Resistor - Surface Mount RoHS; Manufacturer: FOJAN; Manufacturer Part Number: FRL2512JR020TS; Supplier: LCSC; Supplier Part Number: C7467448; Resistance: 20mR; Tolerance: 5%; Power: 1W
footprint RES SMD 2512
pins: 1, 2

## RES 2512 20R 0.1%
designator C?, comment 20R
20R 1W 200V Thick Film Resistor 100ppm/â„ƒ 0.1% 2512 Chip Resistor - Surface Mount RoHS; Manufacturer: FOJAN; Manufacturer Part Number: FRH2512B20R0TS; Supplier: LCSC; Supplier Part Number: C49196682; Resistance: 20R; Tolerance: 0.1%; Voltage Rating: 200V; Power: 1W
footprint RES SMD 2512
pins: 1, 2

## RES 2512 20R 1%
designator C?, comment 20R
20R 1W 200V Thick Film Resistor 100ppm/â„ƒ 1% 2512 Chip Resistor - Surface Mount RoHS; Manufacturer: FOJAN; Manufacturer Part Number: FRC2512F20R0TS; Supplier: LCSC; Supplier Part Number: C2960725; Resistance: 20R; Tolerance: 1%; Voltage Rating: 200V; Power: 1W
footprint RES SMD 2512
pins: 1, 2

## RES 2512 20R 5%
designator C?, comment 20R
20R 2W Thick Film Resistor 200ppm/â„ƒ 5% 2512 Chip Resistor - Surface Mount RoHS; Manufacturer: FOJAN; Manufacturer Part Number: FRP2512J200 TS; Supplier: LCSC; Supplier Part Number: C7468114; Resistance: 20R; Tolerance: 5%; Power: 2W
footprint RES SMD 2512
pins: 1, 2

## RES 2512 20R 5%_1
designator C?, comment 20R
1W 20R 200V Thick Film Resistor 100ppm/â„ƒ 5% 2512 Chip Resistor - Surface Mount RoHS; Manufacturer: FOJAN; Manufacturer Part Number: FRC2512J200TS; Supplier: LCSC; Supplier Part Number: C3000662; Resistance: 20R; Tolerance: 5%; Voltage Rating: 200V; Power: 1W
footprint RES SMD 2512
pins: 1, 2

## RES 2512 22k 1%
designator C?, comment 22k
22kR 1% 1W 2512 Thick Film Resistor; Manufacturer: FOJAN; Manufacturer Part Number: FRC2512F2202TS; Voltage Rating: 200V; Supplier: LCSC; Supplier Part Number: C2999601; Resistance: 22k; Tolerance: 1%; Power: 1W
footprint RES SMD 2512
pins: 1, 2

## RES 2512 22k 5%
designator C?, comment 22k
22kR 5% 1W 2512 Thick Film Resistor; Manufacturer: FOJAN; Manufacturer Part Number: FRC2512J223 TS; Voltage Rating: 200V; Supplier: LCSC; Supplier Part Number: C2907576; Resistance: 22k; Tolerance: 5%; Power: 1W
footprint RES SMD 2512
pins: 1, 2

## RES 2512 22mR 1%
designator C?, comment 22mR
1W 22mR Thick Film Resistor 1200ppm/â„ƒ 1% 2512 Chip Resistor - Surface Mount RoHS; Manufacturer: FOJAN; Manufacturer Part Number: FRL2512FR022TS; Supplier: LCSC; Supplier Part Number: C7467625; Resistance: 22mR; Tolerance: 1%; Power: 1W
footprint RES SMD 2512
pins: 1, 2

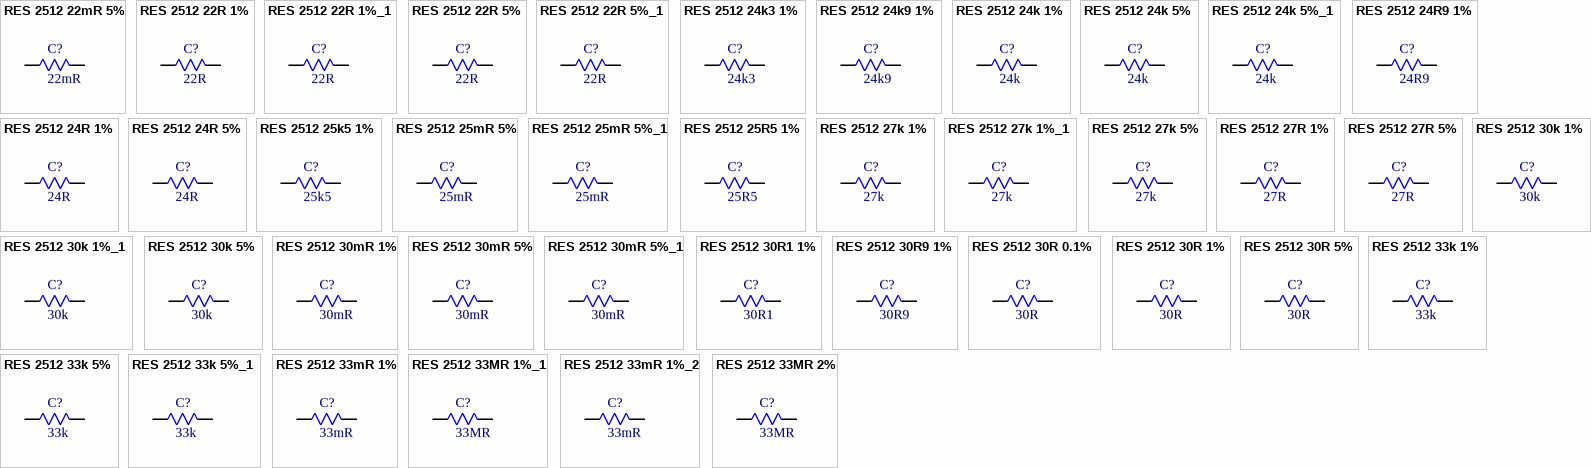
[diagram p115: symbols RES 2512 22mR 5% to RES 2512 33MR 2%]

## RES 2512 22mR 5%
designator C?, comment 22mR
1W 22mR Thick Film Resistor 1200ppm/â„ƒ 5% 2512 Chip Resistor - Surface Mount RoHS; Manufacturer: FOJAN; Manufacturer Part Number: FRL2512JR022TS; Supplier: LCSC; Supplier Part Number: C7467515; Resistance: 22mR; Tolerance: 5%; Power: 1W
footprint RES SMD 2512
pins: 1, 2

## RES 2512 22R 1%
designator C?, comment 22R
2W 22R 200V Thick Film Resistor 200ppm/â„ƒ 1% 2512 Chip Resistor - Surface Mount RoHS; Manufacturer: FOJAN; Manufacturer Part Number: FRP2512F22R0TS; Supplier: LCSC; Supplier Part Number: C5204054; Resistance: 22R; Tolerance: 1%; Voltage Rating: 200V; Power: 2W
footprint RES SMD 2512
pins: 1, 2

## RES 2512 22R 1%_1
designator C?, comment 22R
1W 22R 200V Thick Film Resistor 100ppm/â„ƒ 1% 2512 Chip Resistor - Surface Mount RoHS; Manufacturer: FOJAN; Manufacturer Part Number: FRC2512F22R0TS; Supplier: LCSC; Supplier Part Number: C2999530; Resistance: 22R; Tolerance: 1%; Voltage Rating: 200V; Power: 1W
footprint RES SMD 2512
pins: 1, 2

## RES 2512 22R 5%
designator C?, comment 22R
22R 1W 200V Thick Film Resistor 100ppm/â„ƒ 5% 2512 Chip Resistor - Surface Mount RoHS; Manufacturer: FOJAN; Manufacturer Part Number: FRC2512J220 TS; Supplier: LCSC; Supplier Part Number: C2974113; Resistance: 22R; Tolerance: 5%; Voltage Rating: 200V; Power: 1W
footprint RES SMD 2512
pins: 1, 2

## RES 2512 22R 5%_1
designator C?, comment 22R
22R 2W 200V Thick Film Resistor 5% 200ppm/â„ƒ 2512 Chip Resistor - Surface Mount RoHS; Manufacturer: FOJAN; Manufacturer Part Number: FRP2512J220 TS; Supplier: LCSC; Supplier Part Number: C5713428; Resistance: 22R; Tolerance: 5%; Voltage Rating: 200V; Power: 2W
footprint RES SMD 2512
pins: 1, 2

## RES 2512 24k3 1%
designator C?, comment 24k3
24.3kR 1% 1W 2512 Thick Film Resistor; Manufacturer: FOJAN; Manufacturer Part Number: FRC2512F2432TS; Voltage Rating: 200V; Supplier: LCSC; Supplier Part Number: C3000769; Resistance: 24k3; Tolerance: 1%; Power: 1W
footprint RES SMD 2512
pins: 1, 2

## RES 2512 24k9 1%
designator C?, comment 24k9
1W 24.9kR 200V Thick Film Resistor 1% 100ppm/â„ƒ 2512 Chip Resistor - Surface Mount RoHS; Manufacturer: FOJAN; Manufacturer Part Number: FRC2512F2492TS; Supplier: LCSC; Supplier Part Number: C7467370; Resistance: 24k9; Tolerance: 1%; Voltage Rating: 200V; Power: 1W
footprint RES SMD 2512
pins: 1, 2

## RES 2512 24k 1%
designator C?, comment 24k
24kR 1% 1W 2512 Thick Film Resistor; Manufacturer: FOJAN; Manufacturer Part Number: FRC2512F2402TS; Voltage Rating: 200V; Supplier: LCSC; Supplier Part Number: C2960876; Resistance: 24k; Tolerance: 1%; Power: 1W
footprint RES SMD 2512
pins: 1, 2

## RES 2512 24k 5%
designator C?, comment 24k
24kR 2W 200V Thick Film Resistor 5% 2512 Chip Resistor - Surface Mount RoHS; Manufacturer: FOJAN; Manufacturer Part Number: FRP2512J243 TS; Supplier: LCSC; Supplier Part Number: C51048251; Resistance: 24k; Tolerance: 5%; Voltage Rating: 200V; Power: 2W
footprint RES SMD 2512
pins: 1, 2

## RES 2512 24k 5%_1
designator C?, comment 24k
24kR 5% 1W 2512 Thick Film Resistor; Manufacturer: FOJAN; Manufacturer Part Number: FRC2512J243 TS; Voltage Rating: 200V; Supplier: LCSC; Supplier Part Number: C2934103; Resistance: 24k; Tolerance: 5%; Power: 1W
footprint RES SMD 2512
pins: 1, 2

## RES 2512 24R9 1%
designator C?, comment 24R9
1W 24.9R 200V Thick Film Resistor 100ppm/â„ƒ 1% 2512 Chip Resistor - Surface Mount RoHS; Manufacturer: FOJAN; Manufacturer Part Number: FRC2512F24R9TS; Supplier: LCSC; Supplier Part Number: C2934062; Resistance: 24R9; Tolerance: 1%; Voltage Rating: 200V; Power: 1W
footprint RES SMD 2512
pins: 1, 2

## RES 2512 24R 1%
designator C?, comment 24R
1W 24R 200V Thick Film Resistor 100ppm/â„ƒ 1% 2512 Chip Resistor - Surface Mount RoHS; Manufacturer: FOJAN; Manufacturer Part Number: FRC2512F24R0TS; Supplier: LCSC; Supplier Part Number: C2999627; Resistance: 24R; Tolerance: 1%; Voltage Rating: 200V; Power: 1W
footprint RES SMD 2512
pins: 1, 2

## RES 2512 24R 5%
designator C?, comment 24R
24R 1W 200V Thick Film Resistor 100ppm/â„ƒ 5% 2512 Chip Resistor - Surface Mount RoHS; Manufacturer: FOJAN; Manufacturer Part Number: FRC2512J240 TS; Supplier: LCSC; Supplier Part Number: C2934100; Resistance: 24R; Tolerance: 5%; Voltage Rating: 200V; Power: 1W
footprint RES SMD 2512
pins: 1, 2

## RES 2512 25k5 1%
designator C?, comment 25k5
1W 25.5kR 200V Thick Film Resistor 100ppm/â„ƒ 1% 2512 Chip Resistor - Surface Mount RoHS; Manufacturer: FOJAN; Manufacturer Part Number: FRC2512F2552TS; Supplier: LCSC; Supplier Part Number: C48533751; Resistance: 25k5; Tolerance: 1%; Voltage Rating: 200V; Power: 1W
footprint RES SMD 2512
pins: 1, 2

## RES 2512 25mR 5%
designator C?, comment 25mR
1W 25mR Thick Film Resistor 1200ppm/â„ƒ 5% 2512 Chip Resistor - Surface Mount RoHS; Manufacturer: FOJAN; Manufacturer Part Number: FRL2512JR025TS; Supplier: LCSC; Supplier Part Number: C7467496; Resistance: 25mR; Tolerance: 5%; Power: 1W
footprint RES SMD 2512
pins: 1, 2

## RES 2512 25mR 5%_1
designator C?, comment 25mR
25mR 3W 5% 50ppm/â„ƒ 2512 Chip Resistor - Surface Mount RoHS; Manufacturer: FOJAN; Manufacturer Part Number: FPM253WJR025TN; Supplier: LCSC; Supplier Part Number: C48533599; Resistance: 25mR; Tolerance: 5%; Power: 3W
footprint RES SMD 2512
pins: 1, 2

## RES 2512 25R5 1%
designator C?, comment 25R5
1W 25.5R 200V Thick Film Resistor 1% 2512 Chip Resistor - Surface Mount RoHS; Manufacturer: FOJAN; Manufacturer Part Number: FRC2512F25R5TS; Supplier: LCSC; Supplier Part Number: C51048319; Resistance: 25R5; Tolerance: 1%; Voltage Rating: 200V; Power: 1W
footprint RES SMD 2512
pins: 1, 2

## RES 2512 27k 1%
designator C?, comment 27k
2W 27kR 200V Thick Film Resistor 200ppm/â„ƒ 1% 2512 Chip Resistor - Surface Mount RoHS; Manufacturer: FOJAN; Manufacturer Part Number: FRP2512F2702TS; Supplier: LCSC; Supplier Part Number: C49196881; Resistance: 27k; Tolerance: 1%; Voltage Rating: 200V; Power: 2W
footprint RES SMD 2512
pins: 1, 2

## RES 2512 27k 1%_1
designator C?, comment 27k
27kR 1W 200V Thick Film Resistor 100ppm/â„ƒ 1% 2512 Chip Resistor - Surface Mount RoHS; Manufacturer: FOJAN; Manufacturer Part Number: FRC2512F2702TS; Supplier: LCSC; Supplier Part Number: C48533692; Resistance: 27k; Tolerance: 1%; Voltage Rating: 200V; Power: 1W
footprint RES SMD 2512
pins: 1, 2

## RES 2512 27k 5%
designator C?, comment 27k
27kR 5% 1W 2512 Thick Film Resistor; Manufacturer: FOJAN; Manufacturer Part Number: FRC2512J273 TS; Voltage Rating: 200V; Supplier: LCSC; Supplier Part Number: C2907577; Resistance: 27k; Tolerance: 5%; Power: 1W
footprint RES SMD 2512
pins: 1, 2

## RES 2512 27R 1%
designator C?, comment 27R
1W 27R 200V Thick Film Resistor 100ppm/â„ƒ 1% 2512 Chip Resistor - Surface Mount RoHS; Manufacturer: FOJAN; Manufacturer Part Number: FRC2512F27R0TS; Supplier: LCSC; Supplier Part Number: C2934064; Resistance: 27R; Tolerance: 1%; Voltage Rating: 200V; Power: 1W
footprint RES SMD 2512
pins: 1, 2

## RES 2512 27R 5%
designator C?, comment 27R
1W 27R 200V Thick Film Resistor 100ppm/â„ƒ 5% 2512 Chip Resistor - Surface Mount RoHS; Manufacturer: FOJAN; Manufacturer Part Number: FRC2512J270 TS; Supplier: LCSC; Supplier Part Number: C2907578; Resistance: 27R; Tolerance: 5%; Voltage Rating: 200V; Power: 1W
footprint RES SMD 2512
pins: 1, 2

## RES 2512 30k 1%
designator C?, comment 30k
30kR 1% 1W 2512 Thick Film Resistor; Manufacturer: FOJAN; Manufacturer Part Number: FRC2512F3002TS; Voltage Rating: 200V; Supplier: LCSC; Supplier Part Number: C5204038; Resistance: 30k; Tolerance: 1%; Power: 1W
footprint RES SMD 2512
pins: 1, 2

## RES 2512 30k 1%_1
designator C?, comment 30k
30kR 2W Thick Film Resistor 200ppm/â„ƒ 1% 2512 Chip Resistor - Surface Mount RoHS; Manufacturer: FOJAN; Manufacturer Part Number: FRP2512F3002TS; Supplier: LCSC; Supplier Part Number: C7468347; Resistance: 30k; Tolerance: 1%; Power: 2W
footprint RES SMD 2512
pins: 1, 2

## RES 2512 30k 5%
designator C?, comment 30k
30kR 5% 1W 2512 Thick Film Resistor; Manufacturer: FOJAN; Manufacturer Part Number: FRC2512J303 TS; Voltage Rating: 200V; Supplier: LCSC; Supplier Part Number: C2934110; Resistance: 30k; Tolerance: 5%; Power: 1W
footprint RES SMD 2512
pins: 1, 2

## RES 2512 30mR 1%
designator C?, comment 30mR
30mR 1% 3W; Manufacturer: FOJAN; Manufacturer Part Number: FPM253WFR030TN; Supplier: LCSC; Supplier Part Number: C46635899; Resistance: 30mR; Tolerance: 1%; Power: 3W
footprint RES SMD 2512
pins: 1, 2

## RES 2512 30mR 5%
designator C?, comment 30mR
3W 30mR Current Sense Resistor 5% 50ppm/â„ƒ 2512 Chip Resistor - Surface Mount RoHS; Manufacturer: FOJAN; Manufacturer Part Number: FPM253WJR030TM; Supplier: LCSC; Supplier Part Number: C7420046; Resistance: 30mR; Tolerance: 5%; Power: 3W
footprint RES SMD 2512
pins: 1, 2

## RES 2512 30mR 5%_1
designator C?, comment 30mR
1W 30mR Thick Film Resistor 1200ppm/â„ƒ 5% 2512 Chip Resistor - Surface Mount RoHS; Manufacturer: FOJAN; Manufacturer Part Number: FRL2512JR030TS; Supplier: LCSC; Supplier Part Number: C7467514; Resistance: 30mR; Tolerance: 5%; Power: 1W
footprint RES SMD 2512
pins: 1, 2

## RES 2512 30R1 1%
designator C?, comment 30R1
30.1R 1W 200V Thick Film Resistor 1% 2512 Chip Resistor - Surface Mount RoHS; Manufacturer: FOJAN; Manufacturer Part Number: FRC2512F30R1TS; Supplier: LCSC; Supplier Part Number: C51048285; Resistance: 30R1; Tolerance: 1%; Voltage Rating: 200V; Power: 1W
footprint RES SMD 2512
pins: 1, 2

## RES 2512 30R9 1%
designator C?, comment 30R9
1W 30.9R 200V Thick Film Resistor 1% 2512 Chip Resistor - Surface Mount RoHS; Manufacturer: FOJAN; Manufacturer Part Number: FRC2512F30R9TS; Supplier: LCSC; Supplier Part Number: C51048235; Resistance: 30R9; Tolerance: 1%; Voltage Rating: 200V; Power: 1W
footprint RES SMD 2512
pins: 1, 2